# EAGLE library part 68800611722 (library Wuerth_Elektronik_eiCan_Wire_to_Board_Connectors v1.2)
WR-WTB 2.50mm "J" Type Male Horizontal Shrouded Header, 6 Pins
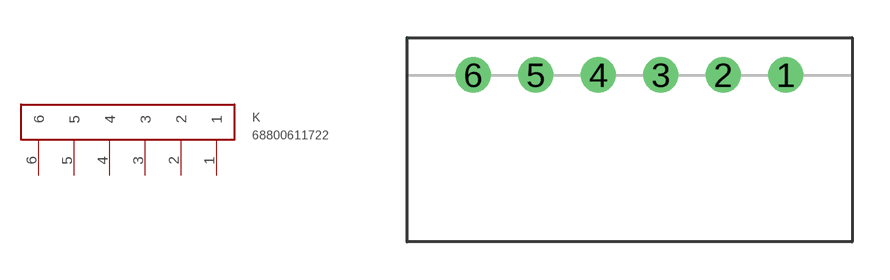
[diagram p18: symbol with the pads of 68800611722; footprint 68800611722]

Designator prefix K

## 68800611722  [68800611722]
1  1
2  2
3  3
4  4
5  5
6  6

## Footprint 68800611722 (pad centres in mm)
WR-WTB 2.50mm "J" Type Male Horizontal Shrouded Header, 6 Pins
drill 0.9 round: 1 1.25,0; 2 -1.25,0; 3 -3.75,0; 4 -6.25,0; 5 -8.75,0; 6 -11.25,0